# Altium schematic symbol library Buffer.SchLib: 1 symbol
Pins are listed as number, name and electrical type; pins without a type are passive.

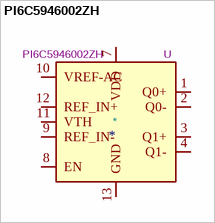
[diagram p0: symbol PI6C5946002ZH]

## PI6C5946002ZH
designator *  value PI6C5946002ZH  Reference: U
ki_keywords: buffer clock data; ki_description: 6 GHz / 12 Gbps Clock / Data 1:2 Fanout Buffer with Internal Termination, TQFN-16; ki_fp_filters: TQFN*1EP*3x3mm*P0.5mm*; Footprint: Package_DFN_QFN:TQFN-16-1EP_3x3mm_P0.5mm_EP1.6x1.6mm; Datasheet: https://www.diodes.com/assets/Datasheets/PI6C5946002.pdf
pins: 1 Q0+, 2 Q0-, 3 Q1+, 4 Q1-, 5 DNC hidden, 6 DNC hidden, 7 VDD, 8 EN, 9 REF_IN-, 10 VREF-AC, 11 VTH, 12 REF_IN+, 13 GND, 14 VDD hidden, 15 DNC hidden, 16 DNC hidden, 17 GND hidden